# Altium schematic symbol library TC33X-2-203G.SchLib: 1 symbol
Pins are listed as number, name and electrical type; pins without a type are passive.

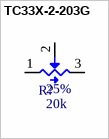
[diagram p0: symbol TC33X-2-203G]

## TC33X-2-203G
designator R?  Tolerance: 25%  Resistance: 20k  (hidden comment: TC33X-2-203G)
Trimmer Resistors - SMD 3MM 20KOHMS 25% 0.1WATT OPEN FRM; MFR: Bourns; Power Rating: 1/10W; PN: TC33X-2-203G; Footprint: TC33X-2; Package: TC33X-2; ComponentLink1Description: Datasheet; ComponentLink1URL: https://www.mouser.ca/datasheet/2/54/tc33-778219.pdf; Supplier 1: Mouser; Supplier Part Number 1: 652-TC33X-2-203G
footprint TC33X-2
pins: 1, 2, 3